# Altium footprint library PCB - CONNECTOR - MOLEX - MOLEX MICRO-FIT 3.0 0436500201.PcbLib: 1 footprints
Each footprint in its own frame and in the unit in brackets; x right, y up, seen from the top. Pads: shape width x height; smd on the part's side, far side on the other; paste and mask are expansions set on the pad; w line width, h text height; cw(c..) or ccw(c..) is an arc to the next point about the centre after c.
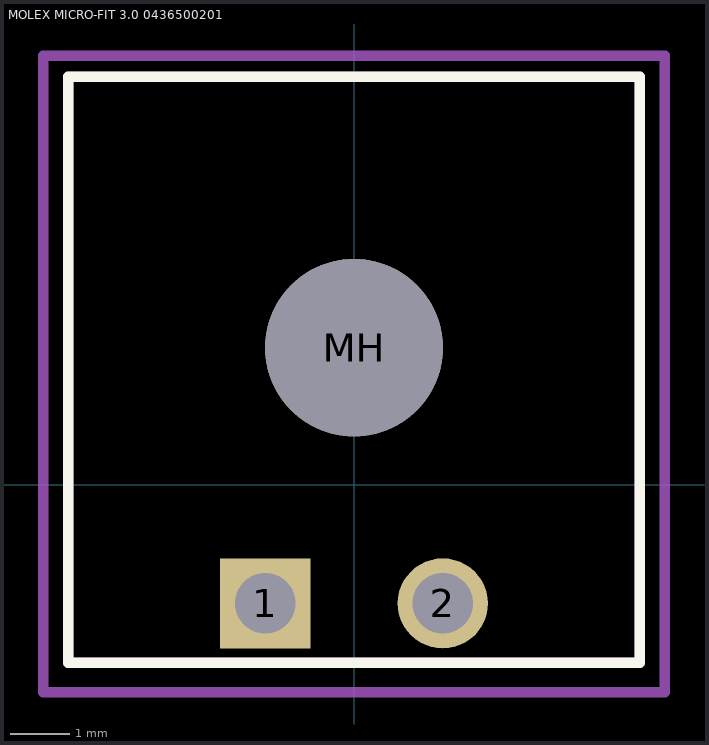
[diagram p0: the footprint, top view; thin cyan lines are the x and y axes]

## MOLEX MICRO-FIT 3.0 0436500201 [mm]
height 5.87
pads (3):
  rect 1.524x1.524 hole 1.02 paste-40: 1(-1.5,-2)
  round 1.524 hole 1.02 paste-40: 2(1.5,-2)
  round 3 hole 3 unplated paste-40: MH(0,2.32)
Top Overlay:
  lines w0.178: -4.825,-3 -4.825,6.9 4.825,6.9 4.825,-3 -4.825,-3
Top Assembly:
  lines w0.178: -4.825,-3 -4.825,6.9 4.825,6.9 4.825,-3 -4.825,-3
Top Courtyard:
  lines w0.178: -5.25,-3.5 -5.25,7.25 5.25,7.25 5.25,-3.5 -5.25,-3.5
3D body "436500201 v2.step": height 5.59, standoff -3.32, extent -4.825,-3 4.825,6.9